# Altium footprint library SM74611 Smart Bypass Diode - TI.PcbLib: 1 footprints
Each footprint in its own frame and in the unit in brackets; x right, y up, seen from the top. Pads: shape width x height; smd on the part's side, far side on the other; paste and mask are expansions set on the pad; w line width, h text height; cw(c..) or ccw(c..) is an arc to the next point about the centre after c.
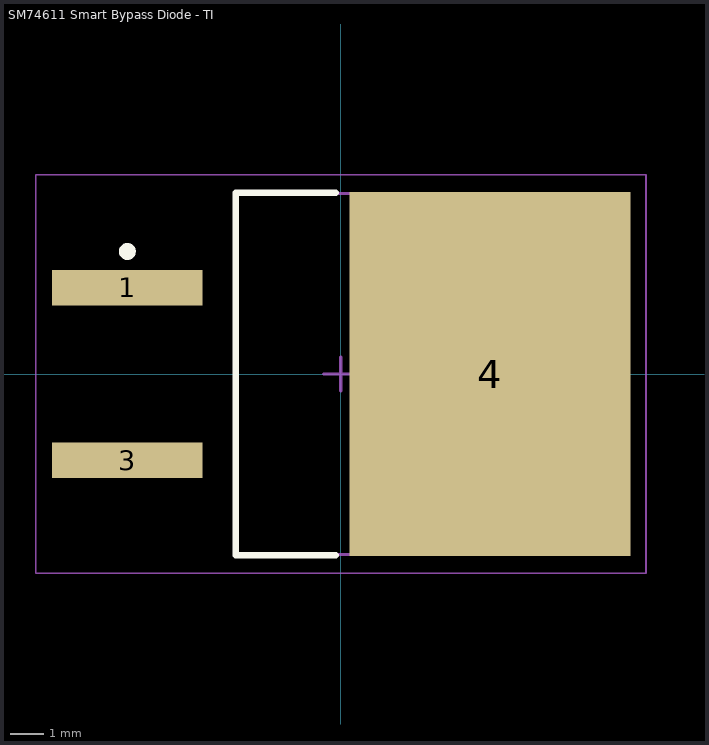
[diagram p0: the footprint, top view; thin cyan lines are the x and y axes]

## SM74611 Smart Bypass Diode - TI [mm] "Digikey: 296-35688-1-ND / MFG: SM74611KTTR"
height 4.83
pads (3):
  rect 4.45x1.05 smd: 1(-6.3,2.54) 3(-6.3,-2.54)
  rect 8.3x10.75 smd: 4(4.4,0)
Top Overlay:
  circle w0.25: c-6.3,3.615 r0.125
  lines w0.2: -0.15,-5.35 -3.1,-5.35 -3.1,5.35 -0.15,5.35
Mechanical 13:
  lines w0.1: -3.1,-5.325 -3.1,5.325 6.55,5.325 6.55,-5.325 -3.1,-5.325
Mechanical 15:
  lines w0.05: -9,-5.875 -9,5.875 9,5.875 9,-5.875 -9,-5.875
  lines w0.1: -0.5,0 0.5,0 ; 0,-0.5 0,0.5
3D body "DPAK254P1524X483-3M.step": height 5.08, standoff 0, extent -7.07,-5.325 8.17,5.325